# Altium integrated library Analog Devices Data Converters Digital-to-Analog Converters.IntLib: 2231 symbols (part 125 of 181)
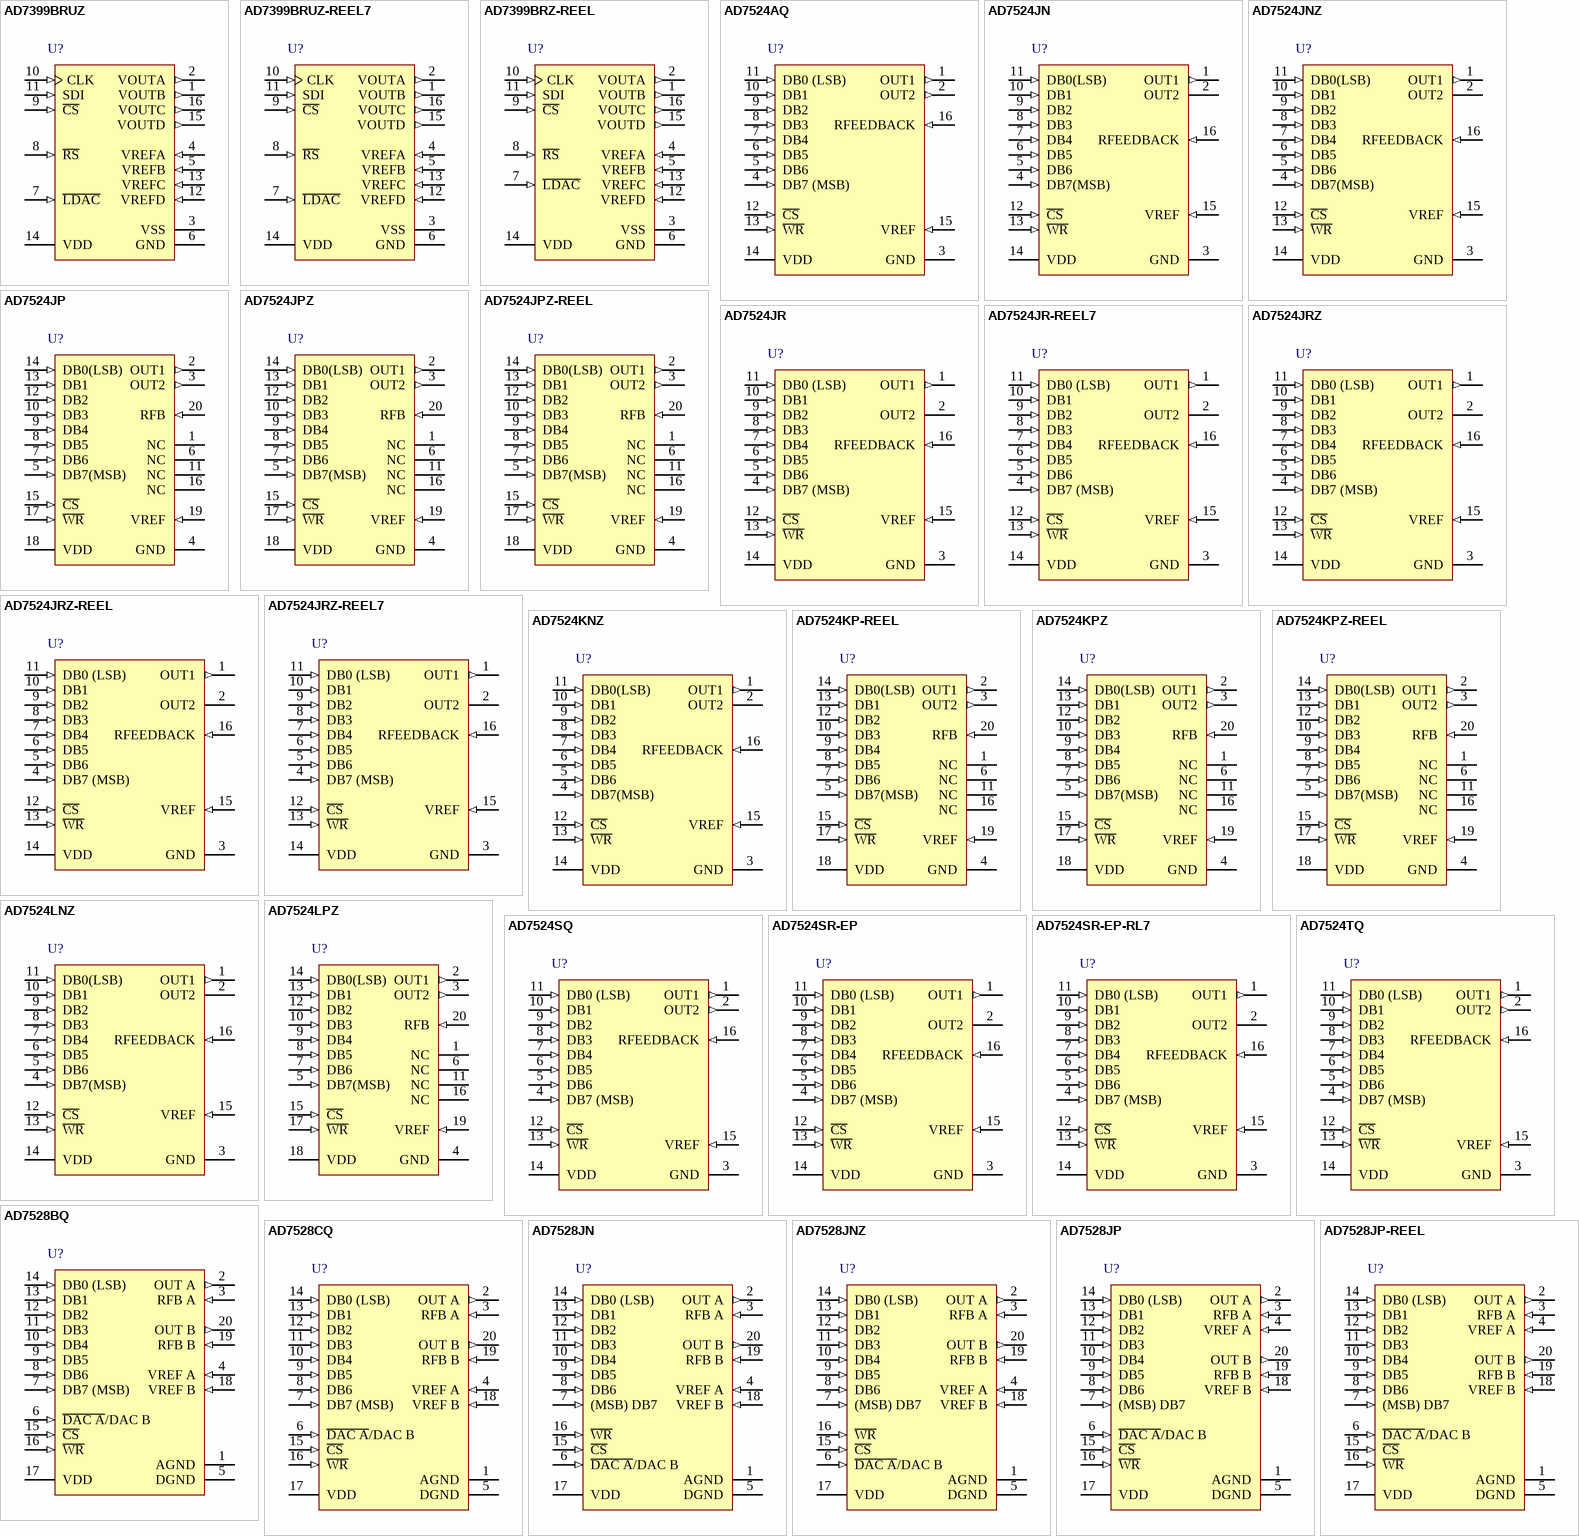
[diagram p238: symbols AD7399BRUZ to AD7528JP-REEL]

## AD7524TQ
designator U?
Single 8-Bit Buffered Multiplying CMOS Digital-to-Analog Converter, -55 to +125 degC, Q-16, Tube; Generic Part Number: AD7524; Manufacturer: Analog Devices; PartNumber: AD7524TQ; # DAC Outputs: 1; Max V+: 15V; Op Pwr Diss: 30mW; Resolution (Bits): 8; Settling Time: 250ns; Single Supply: Yes; DatasheetVersion: Rev.B; PackageVersion: 1996; PackageReference: Q-16; PackageDescription: DIP, 16-Pin, Skinny Dual In-line Package, 300mil Wide, Pitch 2.54 mm; Supplier 1: Digi-Key; Supplier Part Number 1: AD7524TQ-ND; Supplier 2: Mouser; Supplier Part Number 2: 584-AD7524TQ; Packing: Tube; RoHS: N; Mounting Technology: Through Hole; ComponentLink1Description: Manufacturer URL; ComponentLink1URL: http://www.analog.com/en/index.html; ComponentLink2Description: Datasheet; ComponentLink2URL: http://www.analog.com/static/imported-files/data_sheets/AD7524.pdf; ComponentLink3Description: Package Specification; ComponentLink3URL: http://www.analog.com/static/imported-files/packages/54083157002221Q_16.pdf; ComponentLink4Description: Product URL; ComponentLink4URL: http://www.analog.com/en/digital-to-analog-converters/da-converters/ad7524/products/product.html
footprint Q-16 (DIP, 16-Leads, Row Spacing 7.62mm, Pitch 2.54mm, Body 20.07x6.73mm)
pins: 1 OUT1 (out), 2 OUT2 (out), 3 GND (power), 4 DB7 (MSB) (in), 5 DB6 (in), 6 DB5 (in), 7 DB4 (in), 8 DB3 (in), 9 DB2 (in), 10 DB1 (in), 11 DB0 (LSB) (in), 12 ~{CS} (in), 13 ~{WR} (in), 14 VDD (power), 15 VREF (in), 16 RFEEDBACK (in)

## AD7528BQ
designator U?
Dual 8-Bit Buffered Multiplying CMOS Digital-to-Analog Converter, -40 to +85 degC, Q-20, Tube; Generic Part Number: AD7528; Manufacturer: Analog Devices; PartNumber: AD7528BQ; # DAC Outputs: 2; Max V+: 15V; Op Pwr Diss: 30mW; Resolution (Bits): 8; Settling Time: 180ns; Single Supply: Yes; DatasheetVersion: Rev.B; PackageVersion: Dec-2004; PackageReference: Q-20; PackageDescription: 20-Lead Ceramic Dual In-Line Package [CERDIP]; Supplier 1: Digi-Key; Supplier Part Number 1: AD7528BQ-ND; Supplier 2: Mouser; Supplier Part Number 2: 584-AD7528BQ; Packing: Tube; RoHS: N; Mounting Technology: Through Hole; ComponentLink1Description: Manufacturer URL; ComponentLink1URL: http://www.analog.com/en/index.html; ComponentLink2Description: Datasheet; ComponentLink2URL: http://www.analog.com/static/imported-files/data_sheets/AD7528.pdf; ComponentLink3Description: Package Specification; ComponentLink3URL: http://www.analog.com/static/imported-files/packages/50516416473314Q_20.pdf; ComponentLink4Description: Product URL; ComponentLink4URL: http://www.analog.com/en/digital-to-analog-converters/da-converters/ad7528/products/product.html
footprint Q-20 (DIP, 20-Leads, Row Spacing 7.62mm, Pitch 2.54mm, Body 25.9x6.7mm)
pins: 1 AGND (power), 2 OUT A (out), 3 RFB A (in), 4 VREF A (in), 5 DGND (power), 6 ~{DAC A}/DAC B (in), 7 DB7 (MSB)  (in), 8 DB6 (in), 9 DB5 (in), 10 DB4 (in), 11 DB3 (in), 12 DB2 (in), 13 DB1 (in), 14 DB0 (LSB) (in), 15 ~{CS} (in), 16 ~{WR} (in), 17 VDD (power), 18 VREF B (in), 19 RFB B (in), 20 OUT B (out)

## AD7528CQ
designator U?
Dual 8-Bit Buffered Multiplying CMOS Digital-to-Analog Converter, -40 to +85 degC, Q-20, Tube; Generic Part Number: AD7528; Manufacturer: Analog Devices; PartNumber: AD7528CQ; # DAC Outputs: 2; Max V+: 15V; Op Pwr Diss: 30mW; Resolution (Bits): 8; Settling Time: 180ns; Single Supply: Yes; DatasheetVersion: Rev.B; PackageVersion: Dec-2004; PackageReference: Q-20; PackageDescription: 20-Lead Ceramic Dual In-Line Package [CERDIP]; Supplier 1: Digi-Key; Supplier Part Number 1: AD7528CQ-ND; Supplier 2: Mouser; Supplier Part Number 2: 584-AD7528CQ; Packing: Tube; RoHS: N; Mounting Technology: Through Hole; ComponentLink1Description: Manufacturer URL; ComponentLink1URL: http://www.analog.com/en/index.html; ComponentLink2Description: Datasheet; ComponentLink2URL: http://www.analog.com/static/imported-files/data_sheets/AD7528.pdf; ComponentLink3Description: Package Specification; ComponentLink3URL: http://www.analog.com/static/imported-files/packages/50516416473314Q_20.pdf; ComponentLink4Description: Product URL; ComponentLink4URL: http://www.analog.com/en/digital-to-analog-converters/da-converters/ad7528/products/product.html
footprint Q-20 (DIP, 20-Leads, Row Spacing 7.62mm, Pitch 2.54mm, Body 25.9x6.7mm)
pins: 1 AGND (power), 2 OUT A (out), 3 RFB A (in), 4 VREF A (in), 5 DGND (power), 6 ~{DAC A}/DAC B (in), 7 DB7 (MSB)  (in), 8 DB6 (in), 9 DB5 (in), 10 DB4 (in), 11 DB3 (in), 12 DB2 (in), 13 DB1 (in), 14 DB0 (LSB) (in), 15 ~{CS} (in), 16 ~{WR} (in), 17 VDD (power), 18 VREF B (in), 19 RFB B (in), 20 OUT B (out)

## AD7528JN
designator U?
Dual 8-Bit Buffered Multiplying CMOS Digital-to-Analog Converter, 0 to +70 degC, N-20, Tube; Generic Part Number: AD7528; Manufacturer: Analog Devices; PartNumber: AD7528JN; # DAC Outputs: 2; Max V+: 15V; Op Pwr Diss: 30mW; Resolution (Bits): 8; Settling Time: 180ns; Single Supply: Yes; DatasheetVersion: Rev.B; PackageVersion: 070706-A; PackageReference: N-20; PackageDescription: 20-Lead Plastic Dual In-Line Package [PDIP] Narrow Body; Supplier 1: Digi-Key; Supplier Part Number 1: AD7528JN-ND; Supplier 2: Mouser; Supplier Part Number 2: 584-AD7528JN; Packing: Tube; RoHS: N; Mounting Technology: Through Hole; Code_JEDEC: MS-001; ComponentLink1Description: Manufacturer URL; ComponentLink1URL: http://www.analog.com/en/index.html; ComponentLink2Description: Datasheet; ComponentLink2URL: http://www.analog.com/static/imported-files/data_sheets/AD7528.pdf; ComponentLink3Description: Package Specification; ComponentLink3URL: http://www.analog.com/static/imported-files/packages/50601349676519N_20.pdf; ComponentLink4Description: Product URL; ComponentLink4URL: http://www.analog.com/en/digital-to-analog-converters/da-converters/ad7528/products/product.html
footprint N-20 (DIP, 20-Leads, Row Spacing 7.62mm, Pitch 2.54mm, Body 25.9x6.6mm)
pins: 1 AGND (power), 2 OUT A (out), 3 RFB A (in), 4 VREF A (in), 5 DGND (power), 6 ~{DAC A}/DAC B (in), 7 (MSB) DB7 (in), 8 DB6 (in), 9 DB5 (in), 10 DB4 (in), 11 DB3 (in), 12 DB2 (in), 13 DB1 (in), 14 DB0 (LSB) (in), 15 ~{CS} (in), 16 ~{WR} (in), 17 VDD (power), 18 VREF B (in), 19 RFB B (in), 20 OUT B (out)

## AD7528JNZ
designator U?
Dual 8-Bit Buffered Multiplying CMOS Digital-to-Analog Converter, 0 to +70 degC, N-20, Pb-Free, Tube; Generic Part Number: AD7528; Manufacturer: Analog Devices; PartNumber: AD7528JNZ; # DAC Outputs: 2; Max V+: 15V; Op Pwr Diss: 30mW; Resolution (Bits): 8; Settling Time: 180ns; Single Supply: Yes; DatasheetVersion: Rev.B; PackageVersion: 070706-A; PackageReference: N-20; PackageDescription: 20-Lead Plastic Dual In-Line Package [PDIP] Narrow Body; Supplier 1: Digi-Key; Supplier Part Number 1: AD7528JNZ-ND; Supplier 2: Farnell; Supplier Part Number 2: 9604480; Supplier 3: Newark; Supplier Part Number 3: 59K4975; Supplier 4: Mouser; Supplier Part Number 4: 584-AD7528JNZ; Packing: Tube; RoHS: Y; Mounting Technology: Through Hole; Code_JEDEC: MS-001; ComponentLink1Description: Manufacturer URL; ComponentLink1URL: http://www.analog.com/en/index.html; ComponentLink2Description: Datasheet; ComponentLink2URL: http://www.analog.com/static/imported-files/data_sheets/AD7528.pdf; ComponentLink3Description: Package Specification; ComponentLink3URL: http://www.analog.com/static/imported-files/packages/50601349676519N_20.pdf; ComponentLink4Description: Product URL; ComponentLink4URL: http://www.analog.com/en/digital-to-analog-converters/da-converters/ad7528/products/product.html
footprint N-20 (DIP, 20-Leads, Row Spacing 7.62mm, Pitch 2.54mm, Body 25.9x6.6mm)
pins: 1 AGND (power), 2 OUT A (out), 3 RFB A (in), 4 VREF A (in), 5 DGND (power), 6 ~{DAC A}/DAC B (in), 7 (MSB) DB7 (in), 8 DB6 (in), 9 DB5 (in), 10 DB4 (in), 11 DB3 (in), 12 DB2 (in), 13 DB1 (in), 14 DB0 (LSB) (in), 15 ~{CS} (in), 16 ~{WR} (in), 17 VDD (power), 18 VREF B (in), 19 RFB B (in), 20 OUT B (out)

## AD7528JP
designator U?
Dual 8-Bit Buffered Multiplying CMOS Digital-to-Analog Converter, 0 to +70 degC, P-20A, Tube; Generic Part Number: AD7528; Manufacturer: Analog Devices; PartNumber: AD7528JP; # DAC Outputs: 2; Max V+: 15V; Op Pwr Diss: 30mW; Resolution (Bits): 8; Settling Time: 180ns; Single Supply: Yes; DatasheetVersion: Rev.B; PackageVersion: Nov-2002; PackageReference: P-20A; PackageDescription: 20-Lead Plastic Leaded Chip Carrier [PLCC]; Supplier 1: Digi-Key; Supplier Part Number 1: AD7528JP-ND; Supplier 2: Mouser; Supplier Part Number 2: 584-AD7528JP; Packing: Tube; RoHS: N; Mounting Technology: Surface Mount; Code_JEDEC: MO-047-AA; ComponentLink1Description: Manufacturer URL; ComponentLink1URL: http://www.analog.com/en/index.html; ComponentLink2Description: Datasheet; ComponentLink2URL: http://www.analog.com/static/imported-files/data_sheets/AD7528.pdf; ComponentLink3Description: Package Specification; ComponentLink3URL: http://www.analog.com/static/imported-files/packages/3121431516544404277643669223804694P20A.pdf; ComponentLink4Description: Product URL; ComponentLink4URL: http://www.analog.com/en/digital-to-analog-converters/da-converters/ad7528/products/product.html
footprint P-20A_N (Leaded Chip Carrier, 20-Leads, Body 9x9mm, Pitch 1.27mm, IPC Medium Density)
footprint P-20A_L (Leaded Chip Carrier, 20-Leads, Body 9x9mm, Pitch 1.27mm, IPC High Density)
footprint P-20A_M (Leaded Chip Carrier, 20-Leads, Body 9x9mm, Pitch 1.27mm, IPC Low Density)
pins: 1 AGND (power), 2 OUT A (out), 3 RFB A (in), 4 VREF A (in), 5 DGND (power), 6 ~{DAC A}/DAC B (in), 7 (MSB) DB7 (in), 8 DB6 (in), 9 DB5 (in), 10 DB4 (in), 11 DB3 (in), 12 DB2 (in), 13 DB1 (in), 14 DB0 (LSB) (in), 15 ~{CS} (in), 16 ~{WR} (in), 17 VDD (power), 18 VREF B (in), 19 RFB B (in), 20 OUT B (out)

## AD7528JP-REEL
designator U?
Dual 8-Bit Buffered Multiplying CMOS Digital-to-Analog Converter, 0 to +70 degC, P-20A, Reel; Generic Part Number: AD7528; Manufacturer: Analog Devices; PartNumber: AD7528JP-REEL; # DAC Outputs: 2; Max V+: 15V; Op Pwr Diss: 30mW; Resolution (Bits): 8; Settling Time: 180ns; Single Supply: Yes; DatasheetVersion: Rev.B; PackageVersion: Nov-2002; PackageReference: P-20A; PackageDescription: 20-Lead Plastic Leaded Chip Carrier [PLCC]; Supplier 1: Digi-Key; Supplier Part Number 1: AD7528JP-REEL-ND; Supplier 2: Mouser; Supplier Part Number 2: 584-AD7528JP-R; Packing: Reel; RoHS: N; Mounting Technology: Surface Mount; Code_JEDEC: MO-047-AA; ComponentLink1Description: Manufacturer URL; ComponentLink1URL: http://www.analog.com/en/index.html; ComponentLink2Description: Datasheet; ComponentLink2URL: http://www.analog.com/static/imported-files/data_sheets/AD7528.pdf; ComponentLink3Description: Package Specification; ComponentLink3URL: http://www.analog.com/static/imported-files/packages/3121431516544404277643669223804694P20A.pdf; ComponentLink4Description: Product URL; ComponentLink4URL: http://www.analog.com/en/digital-to-analog-converters/da-converters/ad7528/products/product.html
footprint P-20A_N (Leaded Chip Carrier, 20-Leads, Body 9x9mm, Pitch 1.27mm, IPC Medium Density)
footprint P-20A_L (Leaded Chip Carrier, 20-Leads, Body 9x9mm, Pitch 1.27mm, IPC High Density)
footprint P-20A_M (Leaded Chip Carrier, 20-Leads, Body 9x9mm, Pitch 1.27mm, IPC Low Density)
pins: 1 AGND (power), 2 OUT A (out), 3 RFB A (in), 4 VREF A (in), 5 DGND (power), 6 ~{DAC A}/DAC B (in), 7 (MSB) DB7 (in), 8 DB6 (in), 9 DB5 (in), 10 DB4 (in), 11 DB3 (in), 12 DB2 (in), 13 DB1 (in), 14 DB0 (LSB) (in), 15 ~{CS} (in), 16 ~{WR} (in), 17 VDD (power), 18 VREF B (in), 19 RFB B (in), 20 OUT B (out)

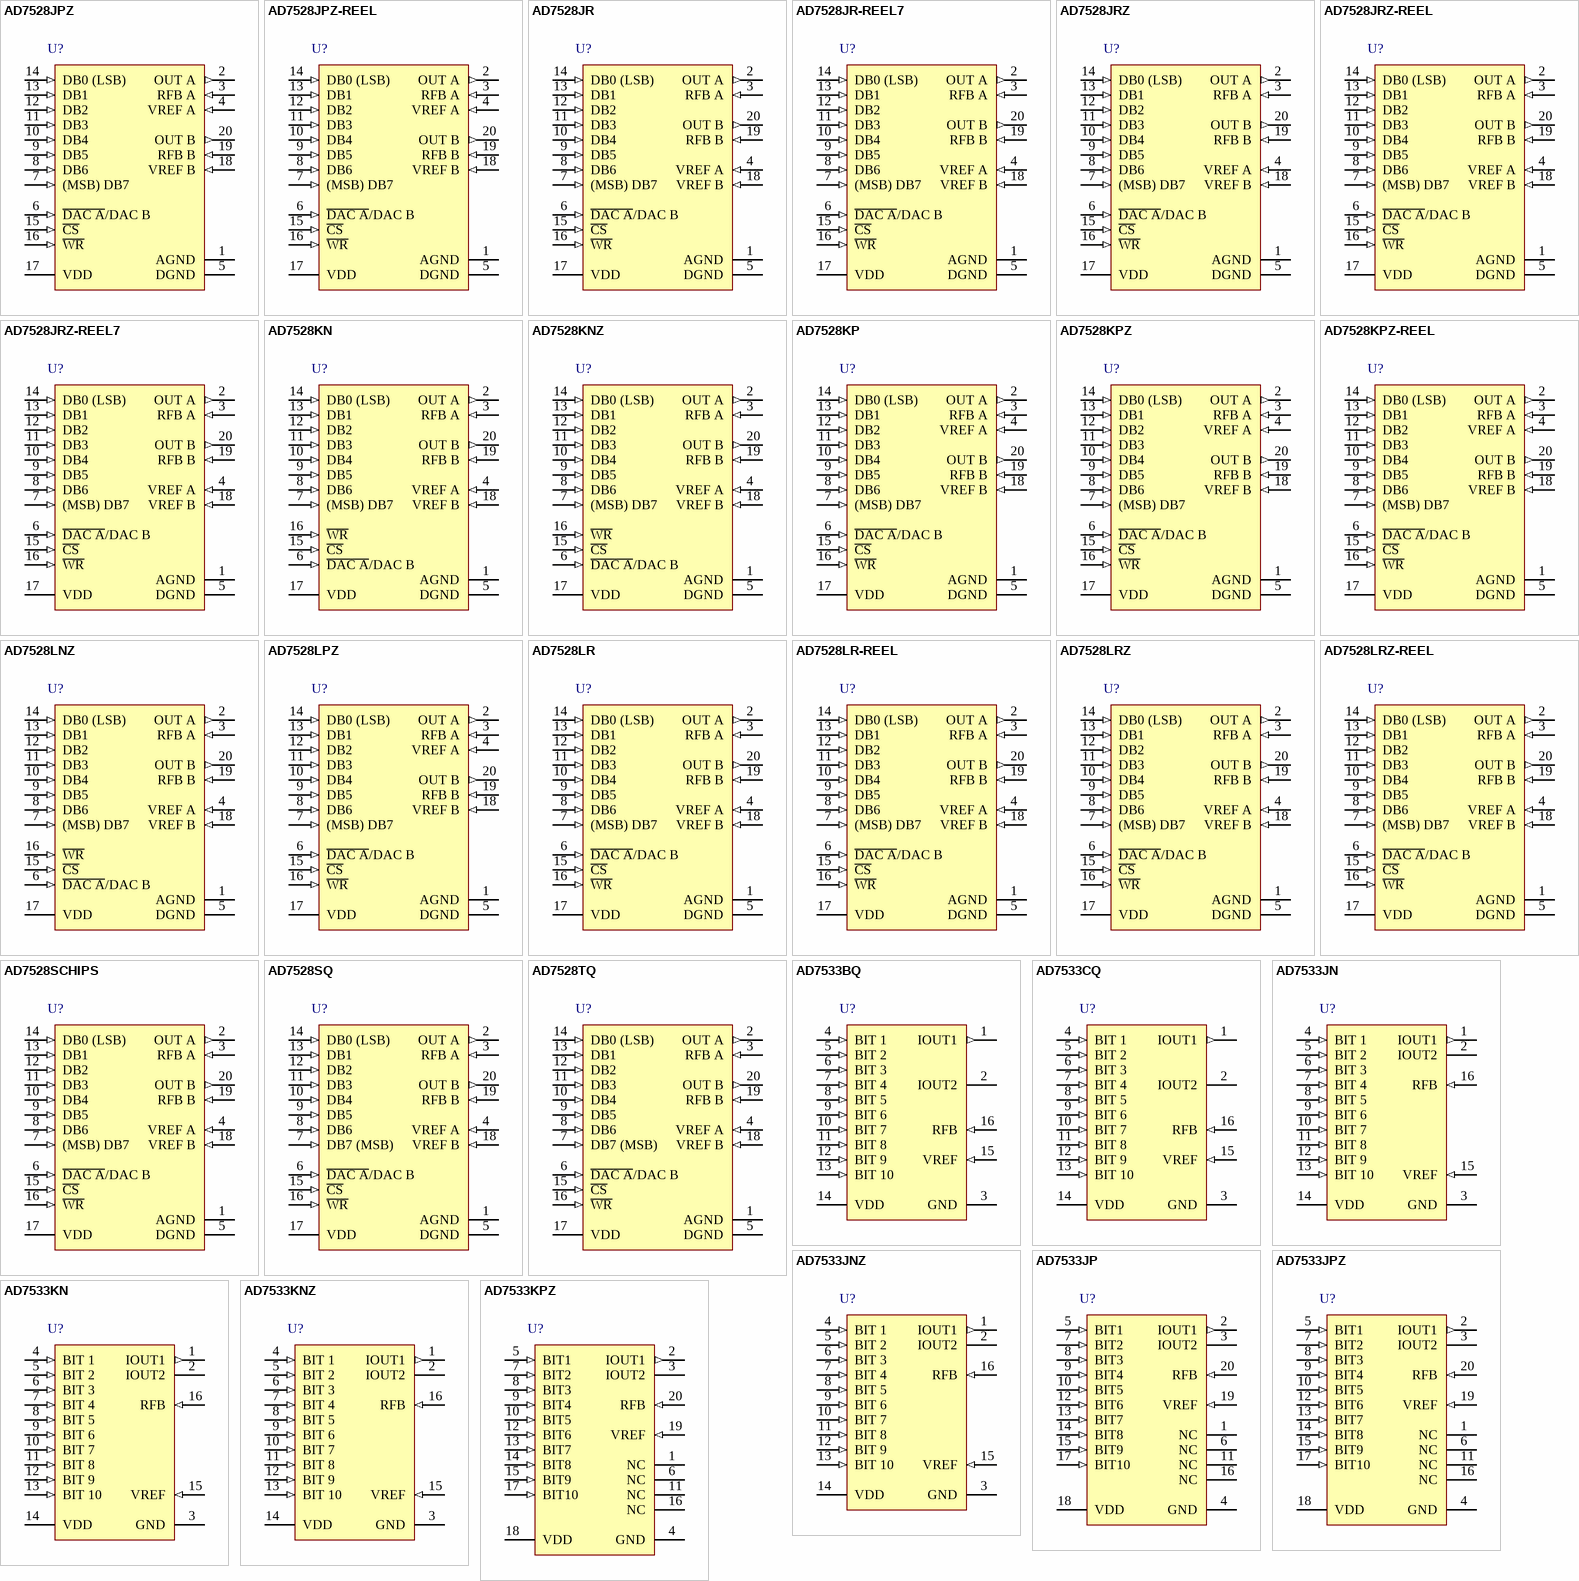
[diagram p67: symbols AD7528JPZ to AD7533KPZ]

## AD7528JPZ
designator U?
Dual 8-Bit Buffered Multiplying CMOS Digital-to-Analog Converter, 0 to +70 degC, P-20A, Pb-Free, Tube; Generic Part Number: AD7528; Manufacturer: Analog Devices; PartNumber: AD7528JPZ; # DAC Outputs: 2; Max V+: 15V; Op Pwr Diss: 30mW; Resolution (Bits): 8; Settling Time: 180ns; Single Supply: Yes; DatasheetVersion: Rev.B; PackageVersion: Nov-2002; PackageReference: P-20A; PackageDescription: 20-Lead Plastic Leaded Chip Carrier [PLCC]; Supplier 1: Digi-Key; Supplier Part Number 1: AD7528JPZ-ND; Supplier 2: Mouser; Supplier Part Number 2: 584-AD7528JPZ; Packing: Tube; RoHS: Y; Mounting Technology: Surface Mount; Code_JEDEC: MO-047-AA; ComponentLink1Description: Manufacturer URL; ComponentLink1URL: http://www.analog.com/en/index.html; ComponentLink2Description: Datasheet; ComponentLink2URL: http://www.analog.com/static/imported-files/data_sheets/AD7528.pdf; ComponentLink3Description: Package Specification; ComponentLink3URL: http://www.analog.com/static/imported-files/packages/3121431516544404277643669223804694P20A.pdf; ComponentLink4Description: Product URL; ComponentLink4URL: http://www.analog.com/en/digital-to-analog-converters/da-converters/ad7528/products/product.html
footprint P-20A_N (Leaded Chip Carrier, 20-Leads, Body 9x9mm, Pitch 1.27mm, IPC Medium Density)
footprint P-20A_L (Leaded Chip Carrier, 20-Leads, Body 9x9mm, Pitch 1.27mm, IPC High Density)
footprint P-20A_M (Leaded Chip Carrier, 20-Leads, Body 9x9mm, Pitch 1.27mm, IPC Low Density)
pins: 1 AGND (power), 2 OUT A (out), 3 RFB A (in), 4 VREF A (in), 5 DGND (power), 6 ~{DAC A}/DAC B (in), 7 (MSB) DB7 (in), 8 DB6 (in), 9 DB5 (in), 10 DB4 (in), 11 DB3 (in), 12 DB2 (in), 13 DB1 (in), 14 DB0 (LSB) (in), 15 ~{CS} (in), 16 ~{WR} (in), 17 VDD (power), 18 VREF B (in), 19 RFB B (in), 20 OUT B (out)

## AD7528JPZ-REEL
designator U?
Dual 8-Bit Buffered Multiplying CMOS Digital-to-Analog Converter, 0 to +70 degC, P-20A, Pb-Free, Reel; Generic Part Number: AD7528; Manufacturer: Analog Devices; PartNumber: AD7528JPZ-REEL; # DAC Outputs: 2; Max V+: 15V; Op Pwr Diss: 30mW; Resolution (Bits): 8; Settling Time: 180ns; Single Supply: Yes; DatasheetVersion: Rev.B; PackageVersion: Nov-2002; PackageReference: P-20A; PackageDescription: 20-Lead Plastic Leaded Chip Carrier [PLCC]; Supplier 1: Digi-Key; Supplier Part Number 1: AD7528JPZ-REEL-ND; Supplier 2: Newark; Supplier Part Number 2: 12M8830; Supplier 3: Mouser; Supplier Part Number 3: 584-AD7528JPZ-R; Packing: Reel; RoHS: Y; Mounting Technology: Surface Mount; Code_JEDEC: MO-047-AA; ComponentLink1Description: Manufacturer URL; ComponentLink1URL: http://www.analog.com/en/index.html; ComponentLink2Description: Datasheet; ComponentLink2URL: http://www.analog.com/static/imported-files/data_sheets/AD7528.pdf; ComponentLink3Description: Package Specification; ComponentLink3URL: http://www.analog.com/static/imported-files/packages/3121431516544404277643669223804694P20A.pdf; ComponentLink4Description: Product URL; ComponentLink4URL: http://www.analog.com/en/digital-to-analog-converters/da-converters/ad7528/products/product.html
footprint P-20A_N (Leaded Chip Carrier, 20-Leads, Body 9x9mm, Pitch 1.27mm, IPC Medium Density)
footprint P-20A_L (Leaded Chip Carrier, 20-Leads, Body 9x9mm, Pitch 1.27mm, IPC High Density)
footprint P-20A_M (Leaded Chip Carrier, 20-Leads, Body 9x9mm, Pitch 1.27mm, IPC Low Density)
pins: 1 AGND (power), 2 OUT A (out), 3 RFB A (in), 4 VREF A (in), 5 DGND (power), 6 ~{DAC A}/DAC B (in), 7 (MSB) DB7 (in), 8 DB6 (in), 9 DB5 (in), 10 DB4 (in), 11 DB3 (in), 12 DB2 (in), 13 DB1 (in), 14 DB0 (LSB) (in), 15 ~{CS} (in), 16 ~{WR} (in), 17 VDD (power), 18 VREF B (in), 19 RFB B (in), 20 OUT B (out)

## AD7528JR
designator U?
Dual 8-Bit Buffered Multiplying CMOS Digital-to-Analog Converter, 0 to +70 degC, RW-20, Tube; Generic Part Number: AD7528; Manufacturer: Analog Devices; PartNumber: AD7528JR; # DAC Outputs: 2; Max V+: 15V; Op Pwr Diss: 30mW; Resolution (Bits): 8; Settling Time: 180ns; Single Supply: Yes; DatasheetVersion: Rev.B; PackageVersion: 060706-A; PackageReference: RW-20; PackageDescription: 20-Lead Standard Small Outline Package [SOIC_W] Wide Body; Supplier 1: Digi-Key; Supplier Part Number 1: AD7528JR-ND; Supplier 2: Mouser; Supplier Part Number 2: 584-AD7528JR; Packing: Tube; RoHS: N; Mounting Technology: Surface Mount; Code_JEDEC: MS-013-AC; ComponentLink1Description: Manufacturer URL; ComponentLink1URL: http://www.analog.com/en/index.html; ComponentLink2Description: Datasheet; ComponentLink2URL: http://www.analog.com/static/imported-files/data_sheets/AD7528.pdf; ComponentLink3Description: Package Specification; ComponentLink3URL: http://www.analog.com/static/imported-files/packages/233848RW_20.pdf; ComponentLink4Description: Product URL; ComponentLink4URL: http://www.analog.com/en/digital-to-analog-converters/da-converters/ad7528/products/product.html
footprint RW-20_N (SOIC, 20-Leads, Body 12.8x7.5mm, Pitch 1.27mm, IPC Medium Density)
footprint RW-20_L (SOIC, 20-Leads, Body 12.8x7.5mm, Pitch 1.27mm, IPC High Density)
footprint RW-20_M (SOIC, 20-Leads, Body 12.8x7.5mm, Pitch 1.27mm, IPC Low Density)
pins: 1 AGND (power), 2 OUT A (out), 3 RFB A (in), 4 VREF A (in), 5 DGND (power), 6 ~{DAC A}/DAC B (in), 7 (MSB) DB7 (in), 8 DB6 (in), 9 DB5 (in), 10 DB4 (in), 11 DB3 (in), 12 DB2 (in), 13 DB1 (in), 14 DB0 (LSB) (in), 15 ~{CS} (in), 16 ~{WR} (in), 17 VDD (power), 18 VREF B (in), 19 RFB B (in), 20 OUT B (out)

## AD7528JR-REEL7
designator U?
Dual 8-Bit Buffered Multiplying CMOS Digital-to-Analog Converter, 0 to +70 degC, RW-20, Reel; Generic Part Number: AD7528; Manufacturer: Analog Devices; PartNumber: AD7528JR-REEL7; # DAC Outputs: 2; Max V+: 15V; Op Pwr Diss: 30mW; Resolution (Bits): 8; Settling Time: 180ns; Single Supply: Yes; DatasheetVersion: Rev.B; PackageVersion: 060706-A; PackageReference: RW-20; PackageDescription: 20-Lead Standard Small Outline Package [SOIC_W] Wide Body; Supplier 1: Digi-Key; Supplier Part Number 1: AD7528JR-REEL7-ND; Supplier 2: Newark; Supplier Part Number 2: 66F1130; Supplier 3: Mouser; Supplier Part Number 3: 584-AD7528JR-R7; Packing: Reel; RoHS: N; Mounting Technology: Surface Mount; Code_JEDEC: MS-013-AC; ComponentLink1Description: Manufacturer URL; ComponentLink1URL: http://www.analog.com/en/index.html; ComponentLink2Description: Datasheet; ComponentLink2URL: http://www.analog.com/static/imported-files/data_sheets/AD7528.pdf; ComponentLink3Description: Package Specification; ComponentLink3URL: http://www.analog.com/static/imported-files/packages/233848RW_20.pdf; ComponentLink4Description: Product URL; ComponentLink4URL: http://www.analog.com/en/digital-to-analog-converters/da-converters/ad7528/products/product.html
footprint RW-20_N (SOIC, 20-Leads, Body 12.8x7.5mm, Pitch 1.27mm, IPC Medium Density)
footprint RW-20_L (SOIC, 20-Leads, Body 12.8x7.5mm, Pitch 1.27mm, IPC High Density)
footprint RW-20_M (SOIC, 20-Leads, Body 12.8x7.5mm, Pitch 1.27mm, IPC Low Density)
pins: 1 AGND (power), 2 OUT A (out), 3 RFB A (in), 4 VREF A (in), 5 DGND (power), 6 ~{DAC A}/DAC B (in), 7 (MSB) DB7 (in), 8 DB6 (in), 9 DB5 (in), 10 DB4 (in), 11 DB3 (in), 12 DB2 (in), 13 DB1 (in), 14 DB0 (LSB) (in), 15 ~{CS} (in), 16 ~{WR} (in), 17 VDD (power), 18 VREF B (in), 19 RFB B (in), 20 OUT B (out)

## AD7528JRZ
designator U?
Dual 8-Bit Buffered Multiplying CMOS Digital-to-Analog Converter, 0 to +70 degC, RW-20, Pb-Free, Tube; Generic Part Number: AD7528; Manufacturer: Analog Devices; PartNumber: AD7528JRZ; # DAC Outputs: 2; Max V+: 15V; Op Pwr Diss: 30mW; Resolution (Bits): 8; Settling Time: 180ns; Single Supply: Yes; DatasheetVersion: Rev.B; PackageVersion: 060706-A; PackageReference: RW-20; PackageDescription: 20-Lead Standard Small Outline Package [SOIC_W] Wide Body; Supplier 1: Digi-Key; Supplier Part Number 1: AD7528JRZ-ND; Supplier 2: Farnell; Supplier Part Number 2: 2305684; Supplier 3: Newark; Supplier Part Number 3: 84W7429; Supplier 4: Newark; Supplier Part Number 4: 88H0002; Supplier 5: Mouser; Supplier Part Number 5: 584-AD7528JRZ; Packing: Tube; RoHS: Y; Mounting Technology: Surface Mount; Code_JEDEC: MS-013-AC; ComponentLink1Description: Manufacturer URL; ComponentLink1URL: http://www.analog.com/en/index.html; ComponentLink2Description: Datasheet; ComponentLink2URL: http://www.analog.com/static/imported-files/data_sheets/AD7528.pdf; ComponentLink3Description: Package Specification; ComponentLink3URL: http://www.analog.com/static/imported-files/packages/233848RW_20.pdf; ComponentLink4Description: Product URL; ComponentLink4URL: http://www.analog.com/en/digital-to-analog-converters/da-converters/ad7528/products/product.html
footprint RW-20_N (SOIC, 20-Leads, Body 12.8x7.5mm, Pitch 1.27mm, IPC Medium Density)
footprint RW-20_L (SOIC, 20-Leads, Body 12.8x7.5mm, Pitch 1.27mm, IPC High Density)
footprint RW-20_M (SOIC, 20-Leads, Body 12.8x7.5mm, Pitch 1.27mm, IPC Low Density)
pins: 1 AGND (power), 2 OUT A (out), 3 RFB A (in), 4 VREF A (in), 5 DGND (power), 6 ~{DAC A}/DAC B (in), 7 (MSB) DB7 (in), 8 DB6 (in), 9 DB5 (in), 10 DB4 (in), 11 DB3 (in), 12 DB2 (in), 13 DB1 (in), 14 DB0 (LSB) (in), 15 ~{CS} (in), 16 ~{WR} (in), 17 VDD (power), 18 VREF B (in), 19 RFB B (in), 20 OUT B (out)

## AD7528JRZ-REEL
designator U?
Dual 8-Bit Buffered Multiplying CMOS Digital-to-Analog Converter, 0 to +70 degC, RW-20, Pb-Free, Reel; Generic Part Number: AD7528; Manufacturer: Analog Devices; PartNumber: AD7528JRZ-REEL; # DAC Outputs: 2; Max V+: 15V; Op Pwr Diss: 30mW; Resolution (Bits): 8; Settling Time: 180ns; Single Supply: Yes; DatasheetVersion: Rev.B; PackageVersion: 060706-A; PackageReference: RW-20; PackageDescription: 20-Lead Standard Small Outline Package [SOIC_W] Wide Body; Supplier 1: Digi-Key; Supplier Part Number 1: AD7528JRZ-REEL-ND; Supplier 2: Newark; Supplier Part Number 2: 88H0003; Supplier 3: Mouser; Supplier Part Number 3: 584-AD7528JRZ-R; Packing: Reel; RoHS: Y; Mounting Technology: Surface Mount; Code_JEDEC: MS-013-AC; ComponentLink1Description: Manufacturer URL; ComponentLink1URL: http://www.analog.com/en/index.html; ComponentLink2Description: Datasheet; ComponentLink2URL: http://www.analog.com/static/imported-files/data_sheets/AD7528.pdf; ComponentLink3Description: Package Specification; ComponentLink3URL: http://www.analog.com/static/imported-files/packages/233848RW_20.pdf; ComponentLink4Description: Product URL; ComponentLink4URL: http://www.analog.com/en/digital-to-analog-converters/da-converters/ad7528/products/product.html
footprint RW-20_N (SOIC, 20-Leads, Body 12.8x7.5mm, Pitch 1.27mm, IPC Medium Density)
footprint RW-20_L (SOIC, 20-Leads, Body 12.8x7.5mm, Pitch 1.27mm, IPC High Density)
footprint RW-20_M (SOIC, 20-Leads, Body 12.8x7.5mm, Pitch 1.27mm, IPC Low Density)
pins: 1 AGND (power), 2 OUT A (out), 3 RFB A (in), 4 VREF A (in), 5 DGND (power), 6 ~{DAC A}/DAC B (in), 7 (MSB) DB7 (in), 8 DB6 (in), 9 DB5 (in), 10 DB4 (in), 11 DB3 (in), 12 DB2 (in), 13 DB1 (in), 14 DB0 (LSB) (in), 15 ~{CS} (in), 16 ~{WR} (in), 17 VDD (power), 18 VREF B (in), 19 RFB B (in), 20 OUT B (out)

## AD7528JRZ-REEL7
designator U?
Dual 8-Bit Buffered Multiplying CMOS Digital-to-Analog Converter, 0 to +70 degC, RW-20, Pb-Free, Reel; Generic Part Number: AD7528; Manufacturer: Analog Devices; PartNumber: AD7528JRZ-REEL7; # DAC Outputs: 2; Max V+: 15V; Op Pwr Diss: 30mW; Resolution (Bits): 8; Settling Time: 180ns; Single Supply: Yes; DatasheetVersion: Rev.B; PackageVersion: 060706-A; PackageReference: RW-20; PackageDescription: 20-Lead Standard Small Outline Package [SOIC_W] Wide Body; Supplier 1: Digi-Key; Supplier Part Number 1: AD7528JRZ-REEL7TR-ND; Supplier 2: Digi-Key; Supplier Part Number 2: AD7528JRZ-REEL7CT-ND; Supplier 3: Digi-Key; Supplier Part Number 3: AD7528JRZ-REEL7DKR-ND; Supplier 4: Mouser; Supplier Part Number 4: 584-AD7528JRZ-R7; Packing: Reel; RoHS: Y; Mounting Technology: Surface Mount; Code_JEDEC: MS-013-AC; ComponentLink1Description: Manufacturer URL; ComponentLink1URL: http://www.analog.com/en/index.html; ComponentLink2Description: Datasheet; ComponentLink2URL: http://www.analog.com/static/imported-files/data_sheets/AD7528.pdf; ComponentLink3Description: Package Specification; ComponentLink3URL: http://www.analog.com/static/imported-files/packages/233848RW_20.pdf; ComponentLink4Description: Product URL; ComponentLink4URL: http://www.analog.com/en/digital-to-analog-converters/da-converters/ad7528/products/product.html
footprint RW-20_N (SOIC, 20-Leads, Body 12.8x7.5mm, Pitch 1.27mm, IPC Medium Density)
footprint RW-20_L (SOIC, 20-Leads, Body 12.8x7.5mm, Pitch 1.27mm, IPC High Density)
footprint RW-20_M (SOIC, 20-Leads, Body 12.8x7.5mm, Pitch 1.27mm, IPC Low Density)
pins: 1 AGND (power), 2 OUT A (out), 3 RFB A (in), 4 VREF A (in), 5 DGND (power), 6 ~{DAC A}/DAC B (in), 7 (MSB) DB7 (in), 8 DB6 (in), 9 DB5 (in), 10 DB4 (in), 11 DB3 (in), 12 DB2 (in), 13 DB1 (in), 14 DB0 (LSB) (in), 15 ~{CS} (in), 16 ~{WR} (in), 17 VDD (power), 18 VREF B (in), 19 RFB B (in), 20 OUT B (out)

## AD7528KN
designator U?
Dual 8-Bit Buffered Multiplying CMOS Digital-to-Analog Converter, 0 to +70 degC, N-20, Tube; Generic Part Number: AD7528; Manufacturer: Analog Devices; PartNumber: AD7528KN; # DAC Outputs: 2; Max V+: 15V; Op Pwr Diss: 30mW; Resolution (Bits): 8; Settling Time: 180ns; Single Supply: Yes; DatasheetVersion: Rev.B; PackageVersion: 070706-A; PackageReference: N-20; PackageDescription: 20-Lead Plastic Dual In-Line Package [PDIP] Narrow Body; Supplier 1: Digi-Key; Supplier Part Number 1: AD7528KN-ND; Supplier 2: Mouser; Supplier Part Number 2: 584-AD7528KN; Packing: Tube; RoHS: N; Mounting Technology: Through Hole; Code_JEDEC: MS-001; ComponentLink1Description: Manufacturer URL; ComponentLink1URL: http://www.analog.com/en/index.html; ComponentLink2Description: Datasheet; ComponentLink2URL: http://www.analog.com/static/imported-files/data_sheets/AD7528.pdf; ComponentLink3Description: Package Specification; ComponentLink3URL: http://www.analog.com/static/imported-files/packages/50601349676519N_20.pdf; ComponentLink4Description: Product URL; ComponentLink4URL: http://www.analog.com/en/digital-to-analog-converters/da-converters/ad7528/products/product.html
footprint N-20 (DIP, 20-Leads, Row Spacing 7.62mm, Pitch 2.54mm, Body 25.9x6.6mm)
pins: 1 AGND (power), 2 OUT A (out), 3 RFB A (in), 4 VREF A (in), 5 DGND (power), 6 ~{DAC A}/DAC B (in), 7 (MSB) DB7 (in), 8 DB6 (in), 9 DB5 (in), 10 DB4 (in), 11 DB3 (in), 12 DB2 (in), 13 DB1 (in), 14 DB0 (LSB) (in), 15 ~{CS} (in), 16 ~{WR} (in), 17 VDD (power), 18 VREF B (in), 19 RFB B (in), 20 OUT B (out)

## AD7528KNZ
designator U?
Dual 8-Bit Buffered Multiplying CMOS Digital-to-Analog Converter, 0 to +70 degC, N-20, Pb-Free, Tube; Generic Part Number: AD7528; Manufacturer: Analog Devices; PartNumber: AD7528KNZ; # DAC Outputs: 2; Max V+: 15V; Op Pwr Diss: 30mW; Resolution (Bits): 8; Settling Time: 180ns; Single Supply: Yes; DatasheetVersion: Rev.B; PackageVersion: 070706-A; PackageReference: N-20; PackageDescription: 20-Lead Plastic Dual In-Line Package [PDIP] Narrow Body; Supplier 1: Digi-Key; Supplier Part Number 1: AD7528KNZ-ND; Supplier 2: Farnell; Supplier Part Number 2: 9604499; Supplier 3: Newark; Supplier Part Number 3: 59K4977; Supplier 4: Mouser; Supplier Part Number 4: 584-AD7528KNZ; Packing: Tube; RoHS: Y; Mounting Technology: Through Hole; Code_JEDEC: MS-001; ComponentLink1Description: Manufacturer URL; ComponentLink1URL: http://www.analog.com/en/index.html; ComponentLink2Description: Datasheet; ComponentLink2URL: http://www.analog.com/static/imported-files/data_sheets/AD7528.pdf; ComponentLink3Description: Package Specification; ComponentLink3URL: http://www.analog.com/static/imported-files/packages/50601349676519N_20.pdf; ComponentLink4Description: Product URL; ComponentLink4URL: http://www.analog.com/en/digital-to-analog-converters/da-converters/ad7528/products/product.html
footprint N-20 (DIP, 20-Leads, Row Spacing 7.62mm, Pitch 2.54mm, Body 25.9x6.6mm)
pins: 1 AGND (power), 2 OUT A (out), 3 RFB A (in), 4 VREF A (in), 5 DGND (power), 6 ~{DAC A}/DAC B (in), 7 (MSB) DB7 (in), 8 DB6 (in), 9 DB5 (in), 10 DB4 (in), 11 DB3 (in), 12 DB2 (in), 13 DB1 (in), 14 DB0 (LSB) (in), 15 ~{CS} (in), 16 ~{WR} (in), 17 VDD (power), 18 VREF B (in), 19 RFB B (in), 20 OUT B (out)

## AD7528KP
designator U?
Dual 8-Bit Buffered Multiplying CMOS Digital-to-Analog Converter, 0 to +70 degC, P-20A, Tube; Generic Part Number: AD7528; Manufacturer: Analog Devices; PartNumber: AD7528KP; # DAC Outputs: 2; Max V+: 15V; Op Pwr Diss: 30mW; Resolution (Bits): 8; Settling Time: 180ns; Single Supply: Yes; DatasheetVersion: Rev.B; PackageVersion: Nov-2002; PackageReference: P-20A; PackageDescription: 20-Lead Plastic Leaded Chip Carrier [PLCC]; Supplier 1: Digi-Key; Supplier Part Number 1: AD7528KP-ND; Supplier 2: Mouser; Supplier Part Number 2: 584-AD7528KP; Packing: Tube; RoHS: N; Mounting Technology: Surface Mount; Code_JEDEC: MO-047-AA; ComponentLink1Description: Manufacturer URL; ComponentLink1URL: http://www.analog.com/en/index.html; ComponentLink2Description: Datasheet; ComponentLink2URL: http://www.analog.com/static/imported-files/data_sheets/AD7528.pdf; ComponentLink3Description: Package Specification; ComponentLink3URL: http://www.analog.com/static/imported-files/packages/3121431516544404277643669223804694P20A.pdf; ComponentLink4Description: Product URL; ComponentLink4URL: http://www.analog.com/en/digital-to-analog-converters/da-converters/ad7528/products/product.html
footprint P-20A_N (Leaded Chip Carrier, 20-Leads, Body 9x9mm, Pitch 1.27mm, IPC Medium Density)
footprint P-20A_L (Leaded Chip Carrier, 20-Leads, Body 9x9mm, Pitch 1.27mm, IPC High Density)
footprint P-20A_M (Leaded Chip Carrier, 20-Leads, Body 9x9mm, Pitch 1.27mm, IPC Low Density)
pins: 1 AGND (power), 2 OUT A (out), 3 RFB A (in), 4 VREF A (in), 5 DGND (power), 6 ~{DAC A}/DAC B (in), 7 (MSB) DB7 (in), 8 DB6 (in), 9 DB5 (in), 10 DB4 (in), 11 DB3 (in), 12 DB2 (in), 13 DB1 (in), 14 DB0 (LSB) (in), 15 ~{CS} (in), 16 ~{WR} (in), 17 VDD (power), 18 VREF B (in), 19 RFB B (in), 20 OUT B (out)

## AD7528KPZ
designator U?
Dual 8-Bit Buffered Multiplying CMOS Digital-to-Analog Converter, 0 to +70 degC, P-20A, Pb-Free, Tube; Generic Part Number: AD7528; Manufacturer: Analog Devices; PartNumber: AD7528KPZ; # DAC Outputs: 2; Max V+: 15V; Op Pwr Diss: 30mW; Resolution (Bits): 8; Settling Time: 180ns; Single Supply: Yes; DatasheetVersion: Rev.B; PackageVersion: Nov-2002; PackageReference: P-20A; PackageDescription: 20-Lead Plastic Leaded Chip Carrier [PLCC]; Supplier 1: Digi-Key; Supplier Part Number 1: AD7528KPZ-ND; Supplier 2: Mouser; Supplier Part Number 2: 584-AD7528KPZ; Packing: Tube; RoHS: Y; Mounting Technology: Surface Mount; Code_JEDEC: MO-047-AA; ComponentLink1Description: Manufacturer URL; ComponentLink1URL: http://www.analog.com/en/index.html; ComponentLink2Description: Datasheet; ComponentLink2URL: http://www.analog.com/static/imported-files/data_sheets/AD7528.pdf; ComponentLink3Description: Package Specification; ComponentLink3URL: http://www.analog.com/static/imported-files/packages/3121431516544404277643669223804694P20A.pdf; ComponentLink4Description: Product URL; ComponentLink4URL: http://www.analog.com/en/digital-to-analog-converters/da-converters/ad7528/products/product.html
footprint P-20A_N (Leaded Chip Carrier, 20-Leads, Body 9x9mm, Pitch 1.27mm, IPC Medium Density)
footprint P-20A_L (Leaded Chip Carrier, 20-Leads, Body 9x9mm, Pitch 1.27mm, IPC High Density)
footprint P-20A_M (Leaded Chip Carrier, 20-Leads, Body 9x9mm, Pitch 1.27mm, IPC Low Density)
pins: 1 AGND (power), 2 OUT A (out), 3 RFB A (in), 4 VREF A (in), 5 DGND (power), 6 ~{DAC A}/DAC B (in), 7 (MSB) DB7 (in), 8 DB6 (in), 9 DB5 (in), 10 DB4 (in), 11 DB3 (in), 12 DB2 (in), 13 DB1 (in), 14 DB0 (LSB) (in), 15 ~{CS} (in), 16 ~{WR} (in), 17 VDD (power), 18 VREF B (in), 19 RFB B (in), 20 OUT B (out)

## AD7528KPZ-REEL
designator U?
Dual 8-Bit Buffered Multiplying CMOS Digital-to-Analog Converter, 0 to +70 degC, P-20A, Pb-Free, Reel; Generic Part Number: AD7528; Manufacturer: Analog Devices; PartNumber: AD7528KPZ-REEL; # DAC Outputs: 2; Max V+: 15V; Op Pwr Diss: 30mW; Resolution (Bits): 8; Settling Time: 180ns; Single Supply: Yes; DatasheetVersion: Rev.B; PackageVersion: Nov-2002; PackageReference: P-20A; PackageDescription: 20-Lead Plastic Leaded Chip Carrier [PLCC]; Supplier 1: Digi-Key; Supplier Part Number 1: AD7528KPZ-REEL-ND; Supplier 2: Mouser; Supplier Part Number 2: 584-AD7528KPZ-R; Packing: Reel; RoHS: Y; Mounting Technology: Surface Mount; Code_JEDEC: MO-047-AA; ComponentLink1Description: Manufacturer URL; ComponentLink1URL: http://www.analog.com/en/index.html; ComponentLink2Description: Datasheet; ComponentLink2URL: http://www.analog.com/static/imported-files/data_sheets/AD7528.pdf; ComponentLink3Description: Package Specification; ComponentLink3URL: http://www.analog.com/static/imported-files/packages/3121431516544404277643669223804694P20A.pdf; ComponentLink4Description: Product URL; ComponentLink4URL: http://www.analog.com/en/digital-to-analog-converters/da-converters/ad7528/products/product.html
footprint P-20A_N (Leaded Chip Carrier, 20-Leads, Body 9x9mm, Pitch 1.27mm, IPC Medium Density)
footprint P-20A_L (Leaded Chip Carrier, 20-Leads, Body 9x9mm, Pitch 1.27mm, IPC High Density)
footprint P-20A_M (Leaded Chip Carrier, 20-Leads, Body 9x9mm, Pitch 1.27mm, IPC Low Density)
pins: 1 AGND (power), 2 OUT A (out), 3 RFB A (in), 4 VREF A (in), 5 DGND (power), 6 ~{DAC A}/DAC B (in), 7 (MSB) DB7 (in), 8 DB6 (in), 9 DB5 (in), 10 DB4 (in), 11 DB3 (in), 12 DB2 (in), 13 DB1 (in), 14 DB0 (LSB) (in), 15 ~{CS} (in), 16 ~{WR} (in), 17 VDD (power), 18 VREF B (in), 19 RFB B (in), 20 OUT B (out)

## AD7528LNZ
designator U?
Dual 8-Bit Buffered Multiplying CMOS Digital-to-Analog Converter, 0 to +70 degC, N-20, Pb-Free, Tube; Generic Part Number: AD7528; Manufacturer: Analog Devices; PartNumber: AD7528LNZ; # DAC Outputs: 2; Max V+: 15V; Op Pwr Diss: 30mW; Resolution (Bits): 8; Settling Time: 180ns; Single Supply: Yes; DatasheetVersion: Rev.B; PackageVersion: 070706-A; PackageReference: N-20; PackageDescription: 20-Lead Plastic Dual In-Line Package [PDIP] Narrow Body; Supplier 1: Digi-Key; Supplier Part Number 1: AD7528LNZ-ND; Supplier 2: Newark; Supplier Part Number 2: 59K4978; Supplier 3: Mouser; Supplier Part Number 3: 584-AD7528LNZ; Packing: Tube; RoHS: Y; Mounting Technology: Through Hole; Code_JEDEC: MS-001; ComponentLink1Description: Manufacturer URL; ComponentLink1URL: http://www.analog.com/en/index.html; ComponentLink2Description: Datasheet; ComponentLink2URL: http://www.analog.com/static/imported-files/data_sheets/AD7528.pdf; ComponentLink3Description: Package Specification; ComponentLink3URL: http://www.analog.com/static/imported-files/packages/50601349676519N_20.pdf; ComponentLink4Description: Product URL; ComponentLink4URL: http://www.analog.com/en/digital-to-analog-converters/da-converters/ad7528/products/product.html
footprint N-20 (DIP, 20-Leads, Row Spacing 7.62mm, Pitch 2.54mm, Body 25.9x6.6mm)
pins: 1 AGND (power), 2 OUT A (out), 3 RFB A (in), 4 VREF A (in), 5 DGND (power), 6 ~{DAC A}/DAC B (in), 7 (MSB) DB7 (in), 8 DB6 (in), 9 DB5 (in), 10 DB4 (in), 11 DB3 (in), 12 DB2 (in), 13 DB1 (in), 14 DB0 (LSB) (in), 15 ~{CS} (in), 16 ~{WR} (in), 17 VDD (power), 18 VREF B (in), 19 RFB B (in), 20 OUT B (out)

## AD7528LPZ
designator U?
Dual 8-Bit Buffered Multiplying CMOS Digital-to-Analog Converter, 0 to +70 degC, P-20A, Pb-Free, Tube; Generic Part Number: AD7528; Manufacturer: Analog Devices; PartNumber: AD7528LPZ; # DAC Outputs: 2; Max V+: 15V; Op Pwr Diss: 30mW; Resolution (Bits): 8; Settling Time: 180ns; Single Supply: Yes; DatasheetVersion: Rev.B; PackageVersion: Nov-2002; PackageReference: P-20A; PackageDescription: 20-Lead Plastic Leaded Chip Carrier [PLCC]; Supplier 1: Digi-Key; Supplier Part Number 1: AD7528LPZ-ND; Supplier 2: Mouser; Supplier Part Number 2: 584-AD7528LPZ; Packing: Tube; RoHS: Y; Mounting Technology: Surface Mount; Code_JEDEC: MO-047-AA; ComponentLink1Description: Manufacturer URL; ComponentLink1URL: http://www.analog.com/en/index.html; ComponentLink2Description: Datasheet; ComponentLink2URL: http://www.analog.com/static/imported-files/data_sheets/AD7528.pdf; ComponentLink3Description: Package Specification; ComponentLink3URL: http://www.analog.com/static/imported-files/packages/3121431516544404277643669223804694P20A.pdf; ComponentLink4Description: Product URL; ComponentLink4URL: http://www.analog.com/en/digital-to-analog-converters/da-converters/ad7528/products/product.html
footprint P-20A_N (Leaded Chip Carrier, 20-Leads, Body 9x9mm, Pitch 1.27mm, IPC Medium Density)
footprint P-20A_L (Leaded Chip Carrier, 20-Leads, Body 9x9mm, Pitch 1.27mm, IPC High Density)
footprint P-20A_M (Leaded Chip Carrier, 20-Leads, Body 9x9mm, Pitch 1.27mm, IPC Low Density)
pins: 1 AGND (power), 2 OUT A (out), 3 RFB A (in), 4 VREF A (in), 5 DGND (power), 6 ~{DAC A}/DAC B (in), 7 (MSB) DB7 (in), 8 DB6 (in), 9 DB5 (in), 10 DB4 (in), 11 DB3 (in), 12 DB2 (in), 13 DB1 (in), 14 DB0 (LSB) (in), 15 ~{CS} (in), 16 ~{WR} (in), 17 VDD (power), 18 VREF B (in), 19 RFB B (in), 20 OUT B (out)

## AD7528LR
designator U?
Dual 8-Bit Buffered Multiplying CMOS Digital-to-Analog Converter, 0 to +70 degC, RW-20, Tube; Generic Part Number: AD7528; Manufacturer: Analog Devices; PartNumber: AD7528LR; # DAC Outputs: 2; Max V+: 15V; Op Pwr Diss: 30mW; Resolution (Bits): 8; Settling Time: 180ns; Single Supply: Yes; DatasheetVersion: Rev.B; PackageVersion: 060706-A; PackageReference: RW-20; PackageDescription: 20-Lead Standard Small Outline Package [SOIC_W] Wide Body; Supplier 1: Digi-Key; Supplier Part Number 1: AD7528LR-ND; Supplier 2: Newark; Supplier Part Number 2: 66F5855; Supplier 3: Mouser; Supplier Part Number 3: 584-AD7528LR; Packing: Tube; RoHS: N; Mounting Technology: Surface Mount; Code_JEDEC: MS-013-AC; ComponentLink1Description: Manufacturer URL; ComponentLink1URL: http://www.analog.com/en/index.html; ComponentLink2Description: Datasheet; ComponentLink2URL: http://www.analog.com/static/imported-files/data_sheets/AD7528.pdf; ComponentLink3Description: Package Specification; ComponentLink3URL: http://www.analog.com/static/imported-files/packages/233848RW_20.pdf; ComponentLink4Description: Product URL; ComponentLink4URL: http://www.analog.com/en/digital-to-analog-converters/da-converters/ad7528/products/product.html
footprint RW-20_N (SOIC, 20-Leads, Body 12.8x7.5mm, Pitch 1.27mm, IPC Medium Density)
footprint RW-20_L (SOIC, 20-Leads, Body 12.8x7.5mm, Pitch 1.27mm, IPC High Density)
footprint RW-20_M (SOIC, 20-Leads, Body 12.8x7.5mm, Pitch 1.27mm, IPC Low Density)
pins: 1 AGND (power), 2 OUT A (out), 3 RFB A (in), 4 VREF A (in), 5 DGND (power), 6 ~{DAC A}/DAC B (in), 7 (MSB) DB7 (in), 8 DB6 (in), 9 DB5 (in), 10 DB4 (in), 11 DB3 (in), 12 DB2 (in), 13 DB1 (in), 14 DB0 (LSB) (in), 15 ~{CS} (in), 16 ~{WR} (in), 17 VDD (power), 18 VREF B (in), 19 RFB B (in), 20 OUT B (out)

## AD7528LR-REEL
designator U?
Dual 8-Bit Buffered Multiplying CMOS Digital-to-Analog Converter, 0 to +70 degC, RW-20, Reel; Generic Part Number: AD7528; Manufacturer: Analog Devices; PartNumber: AD7528LR-REEL; # DAC Outputs: 2; Max V+: 15V; Op Pwr Diss: 30mW; Resolution (Bits): 8; Settling Time: 180ns; Single Supply: Yes; DatasheetVersion: Rev.B; PackageVersion: 060706-A; PackageReference: RW-20; PackageDescription: 20-Lead Standard Small Outline Package [SOIC_W] Wide Body; Supplier 1: Digi-Key; Supplier Part Number 1: AD7528LR-REEL-ND; Supplier 2: Newark; Supplier Part Number 2: 74R5977; Supplier 3: Mouser; Supplier Part Number 3: 584-AD7528LR-R; Packing: Reel; RoHS: N; Mounting Technology: Surface Mount; Code_JEDEC: MS-013-AC; ComponentLink1Description: Manufacturer URL; ComponentLink1URL: http://www.analog.com/en/index.html; ComponentLink2Description: Datasheet; ComponentLink2URL: http://www.analog.com/static/imported-files/data_sheets/AD7528.pdf; ComponentLink3Description: Package Specification; ComponentLink3URL: http://www.analog.com/static/imported-files/packages/233848RW_20.pdf; ComponentLink4Description: Product URL; ComponentLink4URL: http://www.analog.com/en/digital-to-analog-converters/da-converters/ad7528/products/product.html
footprint RW-20_N (SOIC, 20-Leads, Body 12.8x7.5mm, Pitch 1.27mm, IPC Medium Density)
footprint RW-20_L (SOIC, 20-Leads, Body 12.8x7.5mm, Pitch 1.27mm, IPC High Density)
footprint RW-20_M (SOIC, 20-Leads, Body 12.8x7.5mm, Pitch 1.27mm, IPC Low Density)
pins: 1 AGND (power), 2 OUT A (out), 3 RFB A (in), 4 VREF A (in), 5 DGND (power), 6 ~{DAC A}/DAC B (in), 7 (MSB) DB7 (in), 8 DB6 (in), 9 DB5 (in), 10 DB4 (in), 11 DB3 (in), 12 DB2 (in), 13 DB1 (in), 14 DB0 (LSB) (in), 15 ~{CS} (in), 16 ~{WR} (in), 17 VDD (power), 18 VREF B (in), 19 RFB B (in), 20 OUT B (out)

## AD7528LRZ
designator U?
Dual 8-Bit Buffered Multiplying CMOS Digital-to-Analog Converter, 0 to +70 degC, RW-20, Pb-Free, Tube; Generic Part Number: AD7528; Manufacturer: Analog Devices; PartNumber: AD7528LRZ; # DAC Outputs: 2; Max V+: 15V; Op Pwr Diss: 30mW; Resolution (Bits): 8; Settling Time: 180ns; Single Supply: Yes; DatasheetVersion: Rev.B; PackageVersion: 060706-A; PackageReference: RW-20; PackageDescription: 20-Lead Standard Small Outline Package [SOIC_W] Wide Body; Supplier 1: Digi-Key; Supplier Part Number 1: AD7528LRZ-ND; Supplier 2: Newark; Supplier Part Number 2: 74R5978; Supplier 3: Mouser; Supplier Part Number 3: 584-AD7528LRZ; Packing: Tube; RoHS: Y; Mounting Technology: Surface Mount; Code_JEDEC: MS-013-AC; ComponentLink1Description: Manufacturer URL; ComponentLink1URL: http://www.analog.com/en/index.html; ComponentLink2Description: Datasheet; ComponentLink2URL: http://www.analog.com/static/imported-files/data_sheets/AD7528.pdf; ComponentLink3Description: Package Specification; ComponentLink3URL: http://www.analog.com/static/imported-files/packages/233848RW_20.pdf; ComponentLink4Description: Product URL; ComponentLink4URL: http://www.analog.com/en/digital-to-analog-converters/da-converters/ad7528/products/product.html
footprint RW-20_N (SOIC, 20-Leads, Body 12.8x7.5mm, Pitch 1.27mm, IPC Medium Density)
footprint RW-20_L (SOIC, 20-Leads, Body 12.8x7.5mm, Pitch 1.27mm, IPC High Density)
footprint RW-20_M (SOIC, 20-Leads, Body 12.8x7.5mm, Pitch 1.27mm, IPC Low Density)
pins: 1 AGND (power), 2 OUT A (out), 3 RFB A (in), 4 VREF A (in), 5 DGND (power), 6 ~{DAC A}/DAC B (in), 7 (MSB) DB7 (in), 8 DB6 (in), 9 DB5 (in), 10 DB4 (in), 11 DB3 (in), 12 DB2 (in), 13 DB1 (in), 14 DB0 (LSB) (in), 15 ~{CS} (in), 16 ~{WR} (in), 17 VDD (power), 18 VREF B (in), 19 RFB B (in), 20 OUT B (out)

## AD7528LRZ-REEL
designator U?
Dual 8-Bit Buffered Multiplying CMOS Digital-to-Analog Converter, 0 to +70 degC, RW-20, Pb-Free, Reel; Generic Part Number: AD7528; Manufacturer: Analog Devices; PartNumber: AD7528LRZ-REEL; # DAC Outputs: 2; Max V+: 15V; Op Pwr Diss: 30mW; Resolution (Bits): 8; Settling Time: 180ns; Single Supply: Yes; DatasheetVersion: Rev.B; PackageVersion: 060706-A; PackageReference: RW-20; PackageDescription: 20-Lead Standard Small Outline Package [SOIC_W] Wide Body; Supplier 1: Digi-Key; Supplier Part Number 1: AD7528LRZ-REELTR-ND; Supplier 2: Digi-Key; Supplier Part Number 2: AD7528LRZ-REELCT-ND; Supplier 3: Digi-Key; Supplier Part Number 3: AD7528LRZ-REELDKR-ND; Supplier 4: Newark; Supplier Part Number 4: 74R5979; Supplier 5: Mouser; Supplier Part Number 5: 584-AD7528LRZ-R; Packing: Reel; RoHS: Y; Mounting Technology: Surface Mount; Code_JEDEC: MS-013-AC; ComponentLink1Description: Manufacturer URL; ComponentLink1URL: http://www.analog.com/en/index.html; ComponentLink2Description: Datasheet; ComponentLink2URL: http://www.analog.com/static/imported-files/data_sheets/AD7528.pdf; ComponentLink3Description: Package Specification; ComponentLink3URL: http://www.analog.com/static/imported-files/packages/233848RW_20.pdf; ComponentLink4Description: Product URL; ComponentLink4URL: http://www.analog.com/en/digital-to-analog-converters/da-converters/ad7528/products/product.html
footprint RW-20_N (SOIC, 20-Leads, Body 12.8x7.5mm, Pitch 1.27mm, IPC Medium Density)
footprint RW-20_L (SOIC, 20-Leads, Body 12.8x7.5mm, Pitch 1.27mm, IPC High Density)
footprint RW-20_M (SOIC, 20-Leads, Body 12.8x7.5mm, Pitch 1.27mm, IPC Low Density)
pins: 1 AGND (power), 2 OUT A (out), 3 RFB A (in), 4 VREF A (in), 5 DGND (power), 6 ~{DAC A}/DAC B (in), 7 (MSB) DB7 (in), 8 DB6 (in), 9 DB5 (in), 10 DB4 (in), 11 DB3 (in), 12 DB2 (in), 13 DB1 (in), 14 DB0 (LSB) (in), 15 ~{CS} (in), 16 ~{WR} (in), 17 VDD (power), 18 VREF B (in), 19 RFB B (in), 20 OUT B (out)

## AD7528SCHIPS
designator U?
Dual 8-Bit Buffered Multiplying CMOS Digital-to-Analog Converter, -55 to +125 degC, RW-20, Pb-Free, Tray; Generic Part Number: AD7528; Manufacturer: Analog Devices; PartNumber: AD7528SCHIPS; # DAC Outputs: 2; Max V+: 15V; Op Pwr Diss: 30mW; Resolution (Bits): 8; Settling Time: 180ns; Single Supply: Yes; DatasheetVersion: Rev.B; PackageVersion: 060706-A; PackageReference: RW-20; PackageDescription: 20-Lead Standard Small Outline Package [SOIC_W] Wide Body; Supplier 1: Mouser; Supplier Part Number 1: N/A; Packing: Tray; RoHS: Y; Mounting Technology: Surface Mount; Code_JEDEC: MS-013-AC; ComponentLink1Description: Manufacturer URL; ComponentLink1URL: http://www.analog.com/en/index.html; ComponentLink2Description: Datasheet; ComponentLink2URL: http://www.analog.com/static/imported-files/data_sheets/AD7528.pdf; ComponentLink3Description: Package Specification; ComponentLink3URL: http://www.analog.com/static/imported-files/packages/233848RW_20.pdf; ComponentLink4Description: Product URL; ComponentLink4URL: http://www.analog.com/en/digital-to-analog-converters/da-converters/ad7528/products/product.html
footprint RW-20_N (SOIC, 20-Leads, Body 12.8x7.5mm, Pitch 1.27mm, IPC Medium Density)
footprint RW-20_L (SOIC, 20-Leads, Body 12.8x7.5mm, Pitch 1.27mm, IPC High Density)
footprint RW-20_M (SOIC, 20-Leads, Body 12.8x7.5mm, Pitch 1.27mm, IPC Low Density)
pins: 1 AGND (power), 2 OUT A (out), 3 RFB A (in), 4 VREF A (in), 5 DGND (power), 6 ~{DAC A}/DAC B (in), 7 (MSB) DB7 (in), 8 DB6 (in), 9 DB5 (in), 10 DB4 (in), 11 DB3 (in), 12 DB2 (in), 13 DB1 (in), 14 DB0 (LSB) (in), 15 ~{CS} (in), 16 ~{WR} (in), 17 VDD (power), 18 VREF B (in), 19 RFB B (in), 20 OUT B (out)

## AD7528SQ
designator U?
Dual 8-Bit Buffered Multiplying CMOS Digital-to-Analog Converter, -55 to +125 degC, Q-20, Tube; Generic Part Number: AD7528; Manufacturer: Analog Devices; PartNumber: AD7528SQ; # DAC Outputs: 2; Max V+: 15V; Op Pwr Diss: 30mW; Resolution (Bits): 8; Settling Time: 180ns; Single Supply: Yes; DatasheetVersion: Rev.B; PackageVersion: Dec-2004; PackageReference: Q-20; PackageDescription: 20-Lead Ceramic Dual In-Line Package [CERDIP]; Supplier 1: Digi-Key; Supplier Part Number 1: AD7528SQ-ND; Supplier 2: Newark; Supplier Part Number 2: 16F3376; Supplier 3: Mouser; Supplier Part Number 3: 584-AD7528SQ; Packing: Tube; RoHS: N; Mounting Technology: Through Hole; ComponentLink1Description: Manufacturer URL; ComponentLink1URL: http://www.analog.com/en/index.html; ComponentLink2Description: Datasheet; ComponentLink2URL: http://www.analog.com/static/imported-files/data_sheets/AD7528.pdf; ComponentLink3Description: Package Specification; ComponentLink3URL: http://www.analog.com/static/imported-files/packages/50516416473314Q_20.pdf; ComponentLink4Description: Product URL; ComponentLink4URL: http://www.analog.com/en/digital-to-analog-converters/da-converters/ad7528/products/product.html
footprint Q-20 (DIP, 20-Leads, Row Spacing 7.62mm, Pitch 2.54mm, Body 25.9x6.7mm)
pins: 1 AGND (power), 2 OUT A (out), 3 RFB A (in), 4 VREF A (in), 5 DGND (power), 6 ~{DAC A}/DAC B (in), 7 DB7 (MSB)  (in), 8 DB6 (in), 9 DB5 (in), 10 DB4 (in), 11 DB3 (in), 12 DB2 (in), 13 DB1 (in), 14 DB0 (LSB) (in), 15 ~{CS} (in), 16 ~{WR} (in), 17 VDD (power), 18 VREF B (in), 19 RFB B (in), 20 OUT B (out)

## AD7528TQ
designator U?
Dual 8-Bit Buffered Multiplying CMOS Digital-to-Analog Converter, -55 to +125 degC, Q-20, Tube; Generic Part Number: AD7528; Manufacturer: Analog Devices; PartNumber: AD7528TQ; # DAC Outputs: 2; Max V+: 15V; Op Pwr Diss: 30mW; Resolution (Bits): 8; Settling Time: 180ns; Single Supply: Yes; DatasheetVersion: Rev.B; PackageVersion: Dec-2004; PackageReference: Q-20; PackageDescription: 20-Lead Ceramic Dual In-Line Package [CERDIP]; Supplier 1: Digi-Key; Supplier Part Number 1: AD7528TQ-ND; Supplier 2: Mouser; Supplier Part Number 2: 584-AD7528TQ; Packing: Tube; RoHS: N; Mounting Technology: Through Hole; ComponentLink1Description: Manufacturer URL; ComponentLink1URL: http://www.analog.com/en/index.html; ComponentLink2Description: Datasheet; ComponentLink2URL: http://www.analog.com/static/imported-files/data_sheets/AD7528.pdf; ComponentLink3Description: Package Specification; ComponentLink3URL: http://www.analog.com/static/imported-files/packages/50516416473314Q_20.pdf; ComponentLink4Description: Product URL; ComponentLink4URL: http://www.analog.com/en/digital-to-analog-converters/da-converters/ad7528/products/product.html
footprint Q-20 (DIP, 20-Leads, Row Spacing 7.62mm, Pitch 2.54mm, Body 25.9x6.7mm)
pins: 1 AGND (power), 2 OUT A (out), 3 RFB A (in), 4 VREF A (in), 5 DGND (power), 6 ~{DAC A}/DAC B (in), 7 DB7 (MSB)  (in), 8 DB6 (in), 9 DB5 (in), 10 DB4 (in), 11 DB3 (in), 12 DB2 (in), 13 DB1 (in), 14 DB0 (LSB) (in), 15 ~{CS} (in), 16 ~{WR} (in), 17 VDD (power), 18 VREF B (in), 19 RFB B (in), 20 OUT B (out)